# EAGLE library part R-ISO-8 (library Skoba)
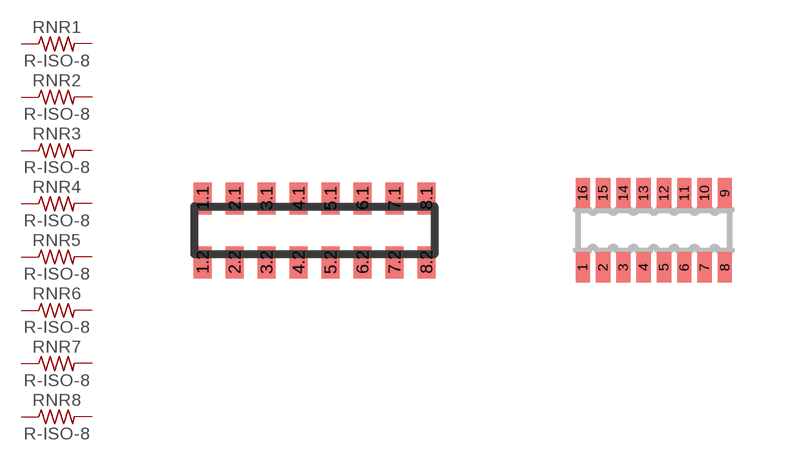
[diagram p42: symbol with the pads of 2506; footprints 2506, EXB-2HV-8-1506]

Designator prefix RN; gates R1=R-US R2=R-US R3=R-US R4=R-US R5=R-US R6=R-US R7=R-US R8=R-US

## R-ISO-82506  [2506]
1.1  R1:1  pas
1.2  R1:2  pas
2.1  R2:1  pas
2.2  R2:2  pas
3.1  R3:1  pas
3.2  R3:2  pas
4.1  R4:1  pas
4.2  R4:2  pas
5.1  R5:1  pas
5.2  R5:2  pas
6.1  R6:1  pas
6.2  R6:2  pas
7.1  R7:1  pas
7.2  R7:2  pas
8.1  R8:1  pas
8.2  R8:2  pas

## R-ISO-81506  [EXB-2HV-8-1506]
1  R1:1  pas
2  R2:1  pas
3  R3:1  pas
4  R4:1  pas
5  R5:1  pas
6  R6:1  pas
7  R7:1  pas
8  R8:1  pas
9  R8:2  pas
10  R7:2  pas
11  R6:2  pas
12  R5:2  pas
13  R4:2  pas
14  R3:2  pas
15  R2:2  pas
16  R1:2  pas

## Footprint 2506 (pad centres in mm)
smd 0.45 x 0.8: 1.1 -2.8,0.8; 1.2 -2.8,-0.8; 2.1 -2,0.8; 2.2 -2,-0.8; 3.1 -1.2,0.8; 3.2 -1.2,-0.8; 4.1 -0.4,0.8; 4.2 -0.4,-0.8; 5.1 0.4,0.8; 5.2 0.4,-0.8; 6.1 1.2,0.8; 6.2 1.2,-0.8; 7.1 2,0.8; 7.2 2,-0.8; 8.1 2.8,0.8; 8.2 2.8,-0.8

## Footprint EXB-2HV-8-1506 (pad centres in mm)
smd 0.356 x 0.762: 1 -1.778,-0.927; 2 -1.27,-0.927; 3 -0.762,-0.927; 4 -0.254,-0.927; 5 0.254,-0.927; 6 0.762,-0.927; 7 1.27,-0.927; 8 1.778,-0.927; 9 1.778,0.927; 10 1.27,0.927; 11 0.762,0.927; 12 0.254,0.927; 13 -0.254,0.927; 14 -0.762,0.927; 15 -1.27,0.927; 16 -1.778,0.927